# Altium integrated library Resistors$.IntLib: 1243 symbols (part 7 of 7)
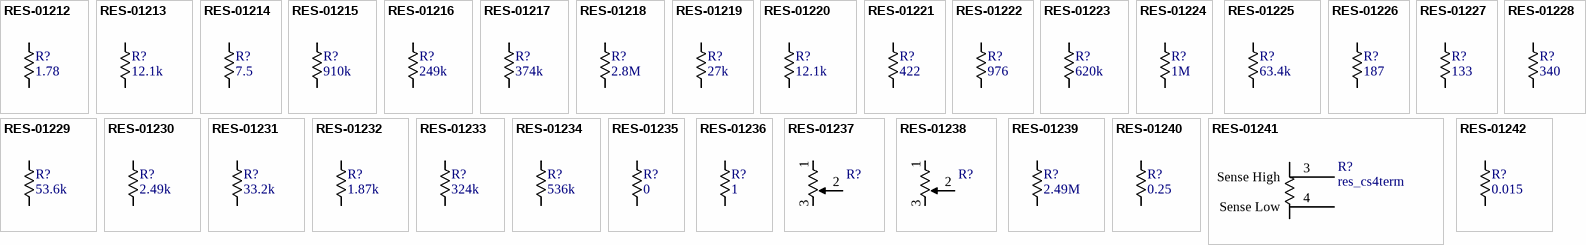
[diagram p38: symbols RES-01212 to RES-01242]

## RES-01212
designator R?, comment 1.78
RES SMD 1.78 OHM 1% 1/10W 0603; Part Number: RES-01212; Manufacturer: Vishay Dale; Manufacturer PN: CRCW06031R78FKEA; Resistance: 1.78; Tolerance: ±1%; Power Rating: 1/10W; Cost: 0.1
footprint chip_0603
pins: 1, 2

## RES-01213
designator R?, comment 12.1k
RES SMD 12.1K OHM 1% 1/10W 0603; Part Number: RES-01213; Manufacturer: Vishay Dale; Manufacturer PN: CRCW060312K1FKEA; Resistance: 12.1k; Tolerance: ±1%; Power Rating: 1/10W; Cost: 0.1
footprint chip_0603
pins: 1, 2

## RES-01214
designator R?, comment 7.5
RES SMD 7.5 OHM 1% 1/10W 0603; Part Number: RES-01214; Manufacturer: Vishay Dale; Manufacturer PN: CRCW06037R50FKEA; Resistance: 7.5; Tolerance: ±1%; Power Rating: 1/10W; Cost: 0.1
footprint chip_0603
pins: 1, 2

## RES-01215
designator R?, comment 910k
RES SMD 910K OHM 1% 1/10W 0603; Part Number: RES-01215; Manufacturer: Vishay Dale; Manufacturer PN: CRCW0603910KFKEA; Resistance: 910k; Tolerance: ±1%; Power Rating: 1/10W; Cost: 0.1
footprint chip_0603
pins: 1, 2

## RES-01216
designator R?, comment 249k
RES SMD 249K OHM 1% 1/10W 0603; Part Number: RES-01216; Manufacturer: Vishay Dale; Manufacturer PN: CRCW0603249KFKEA; Resistance: 249k; Tolerance: ±1%; Power Rating: 1/10W; Cost: 0.1
footprint chip_0603
pins: 1, 2

## RES-01217
designator R?, comment 374k
RES SMD 374K OHM 1% 1/10W 0603; Part Number: RES-01217; Manufacturer: Vishay Dale; Manufacturer PN: CRCW0603374KFKEA; Resistance: 374k; Tolerance: ±1%; Power Rating: 1/10W; Cost: 0.1
footprint chip_0603
pins: 1, 2

## RES-01218
designator R?, comment 2.8M
RES SMD 2.8M OHM 1% 1/10W 0603; Part Number: RES-01218; Manufacturer: Vishay Dale; Manufacturer PN: CRCW06032M80FKEA; Resistance: 2.8M; Tolerance: ±1%; Power Rating: 1/10W; Cost: 0.1
footprint chip_0603
pins: 1, 2

## RES-01219
designator R?, comment 27k
RES SMD 27K OHM 1% 1/10W 0603; Part Number: RES-01219; Manufacturer: Vishay Dale; Manufacturer PN: CRCW060327K0FKEA; Resistance: 27k; Tolerance: ±1%; Power Rating: 1/10W; Cost: 0.1
footprint chip_0603
pins: 1, 2

## RES-01220
designator R?, comment 12.1k
RES SMD 12.1K OHM 1% 1/10W 0603; Part Number: RES-01220; Manufacturer: Vishay Dale; Manufacturer PN: CRCW060312K1FKEB; Resistance: 12.1k; Tolerance: ±1%; Power Rating: 1/10W; Cost: 0.1
footprint chip_0603
pins: 1, 2

## RES-01221
designator R?, comment 422
RES SMD 422 OHM 1% 1/10W 0603; Part Number: RES-01221; Manufacturer: Vishay Dale; Manufacturer PN: CRCW0603422RFKEA; Resistance: 422; Tolerance: ±1%; Power Rating: 1/10W; Cost: 0.1
footprint chip_0603
pins: 1, 2

## RES-01222
designator R?, comment 976
RES SMD 976 OHM 1% 1/10W 0603; Part Number: RES-01222; Manufacturer: Vishay Dale; Manufacturer PN: CRCW0603976RFKEA; Resistance: 976; Tolerance: ±1%; Power Rating: 1/10W; Cost: 0.1
footprint chip_0603
pins: 1, 2

## RES-01223
designator R?, comment 620k
RES SMD 620K OHM 1% 1/10W 0603; Part Number: RES-01223; Manufacturer: Vishay Dale; Manufacturer PN: CRCW0603620KFKEA; Resistance: 620k; Tolerance: ±1%; Power Rating: 1/10W; Cost: 0.1
footprint chip_0603
pins: 1, 2

## RES-01224
designator R?, comment 1M
RES SMD 1M OHM 1% 1/10W 0603; Part Number: RES-01224; Manufacturer: Vishay Dale; Manufacturer PN: CRCW06031M00FKEC; Resistance: 1M; Tolerance: ±1%; Power Rating: 1/10W; Cost: 0.1
footprint chip_0603
pins: 1, 2

## RES-01225
designator R?, comment 63.4k
RES SMD 63.4K OHM 1% 1/10W 0603; Part Number: RES-01225; Manufacturer: Vishay Dale; Manufacturer PN: CRCW060363K4FKEB; Resistance: 63.4k; Tolerance: ±1%; Power Rating: 1/10W; Cost: 0.1
footprint chip_0603
pins: 1, 2

## RES-01226
designator R?, comment 187
RES SMD 187 OHM 1% 1/10W 0603; Part Number: RES-01226; Manufacturer: Vishay Dale; Manufacturer PN: CRCW0603187RFKEA; Resistance: 187; Tolerance: ±1%; Power Rating: 1/10W; Cost: 0.1
footprint chip_0603
pins: 1, 2

## RES-01227
designator R?, comment 133
RES SMD 133 OHM 1% 1/10W 0603; Part Number: RES-01227; Manufacturer: Vishay Dale; Manufacturer PN: CRCW0603133RFKEA; Resistance: 133; Tolerance: ±1%; Power Rating: 1/10W; Cost: 0.1
footprint chip_0603
pins: 1, 2

## RES-01228
designator R?, comment 340
RES SMD 340 OHM 1% 1/10W 0603; Part Number: RES-01228; Manufacturer: Vishay Dale; Manufacturer PN: CRCW0603340RFKEA; Resistance: 340; Tolerance: ±1%; Power Rating: 1/10W; Cost: 0.1
footprint chip_0603
pins: 1, 2

## RES-01229
designator R?, comment 53.6k
RES SMD 53.6K OHM 1% 1/10W 0603; Part Number: RES-01229; Manufacturer: Vishay Dale; Manufacturer PN: CRCW060353K6FKEA; Resistance: 53.6k; Tolerance: ±1%; Power Rating: 1/10W; Cost: 0.1
footprint chip_0603
pins: 1, 2

## RES-01230
designator R?, comment 2.49k
RES SMD 2.49K OHM 1% 1/10W 0603; Part Number: RES-01230; Manufacturer: Vishay Dale; Manufacturer PN: CRCW06032K49FKEB; Resistance: 2.49k; Tolerance: ±1%; Power Rating: 1/10W; Cost: 0.1
footprint chip_0603
pins: 1, 2

## RES-01231
designator R?, comment 33.2k
RES SMD 33.2K OHM 1% 1/10W 0603; Part Number: RES-01231; Manufacturer: Vishay Dale; Manufacturer PN: CRCW060333K2FKEA; Resistance: 33.2k; Tolerance: ±1%; Power Rating: 1/10W; Cost: 0.1; Distributor Link: https://www.digikey.com/en/products/detail/vishay-dale/CRCW060333K2FKEA/1174840
footprint chip_0603
pins: 1, 2

## RES-01232
designator R?, comment 1.87k
RES SMD 1.87K OHM 1% 1/10W 0603; Part Number: RES-01232; Manufacturer: Yageo; Manufacturer PN: RC0603FR-071K87L; Resistance: 1.87k; Tolerance: ±1%; Power Rating: 1/10W; Cost: 0.1; Distributor Link: https://www.digikey.com/en/products/detail/yageo/RC0603FR-071K87L/726876
footprint chip_0603
pins: 1, 2

## RES-01233
designator R?, comment 324k
RES SMD 324K OHM 1% 1/10W 0603 VISHAY DALE CRCW; Part Number: RES-01233; Manufacturer PN: CRCW0603324KFKEA; Resistance: 324k; Tolerance: ±1%; Power Rating: 1/10W; Manufacturer: Vishay Dale; Cost: 0.1; Distributor Link: https://www.digikey.com/en/products/detail/vishay-dale/CRCW0603324KFKEA/1174952
footprint chip_0603
pins: 1, 2

## RES-01234
designator R?, comment 536k
RES SMD 536K OHM 1% 1/10W 0603 VISHAY DALE CRCW; Part Number: RES-01234; Manufacturer PN: CRCW0603536KFKEA; Resistance: 536k; Tolerance: ±1%; Power Rating: 1/10W; Manufacturer: Vishay Dale; Cost: 0.1; Distributor Link: https://www.digikey.com/en/products/detail/vishay-dale/CRCW0603536KFKEA/1174979
footprint chip_0603
pins: 1, 2

## RES-01235
designator R?, comment 0
RES SMD 0 OHM 1/10W 0603 VISHAY DALE CRCW; Part Number: RES-01235; Manufacturer PN: CRCW06030000Z0EA; Tolerance: Jumper; Resistance: 0; Power Rating: 1/10W; Manufacturer: Vishay Dale; Cost: 0.1; Distributor Link: https://www.digikey.com/en/products/detail/vishay-dale/CRCW06030000Z0EA/1174156
footprint chip_0603
pins: 1, 2

## RES-01236
designator R?, comment 1
RES SMD 1 OHM 1% 2W 100ppm/°C 2512 BOURNS CRM2512; Part Number: RES-01236; Manufacturer PN: CRM2512-FX-1R00ELF; Resistance: 1; Tolerance: ±1%; Power Rating: 2W; Manufacturer: Bourns; Cost: 0.7; Distributor Link: https://www.digikey.com/en/products/detail/bourns-inc/CRM2512-FX-1R00ELF/2563906
footprint chip_2512_cs
pins: 1, 2

## RES-01237
designator R?, comment res_single_pot  (value not drawn)
RES POT 100K OHM 10% 1/2W THT PANEL MOUNT; Part Number: RES-01237; Manufacturer: TT Electronics; Manufacturer PN: P260T-D1BS3CB100K; Resistance: 100k; Tolerance: ±10%; Power Rating: 1/2W; Cost: 5.01; Distributor Link: https://www.digikey.com/en/products/detail/tt-electronics-bi/P260T-D1BS3CB100K/2408912
footprint TT_P260T
pins: 1, 2, 3

## RES-01238
designator R?, comment res_single_pot  (value not drawn)
RES POT 100K OHM 1% 1/20W THT VERTICAL; Part Number: RES-01238; Manufacturer: Bourns; Manufacturer PN: PTV09A-4020U-B104; Resistance: 100k; Tolerance: ±1%; Power Rating: 1/20W; Cost: 0.83; Distributor Link: https://www.digikey.com/en/products/detail/bourns-inc/PTV09A-4020U-B104/3781131
footprint BOURNS_PTV09A-4
pins: 1, 2, 3

## RES-01239
designator R?, comment 2.49M
RES SMD 2.49M OHM 1% 1/8W 0805 VISHAY DALE CRCW; Part Number: RES-01239; Manufacturer PN: CRCW08052M49FKEA; Resistance: 2.49M; Tolerance: ±1%; Power Rating: 1/8W; Manufacturer: Vishay Dale; Cost: 0.1; Distributor Link: https://www.digikey.com/en/products/detail/vishay-dale/CRCW08052M49FKEA/1176059
footprint chip_0805
pins: 1, 2

## RES-01240
designator R?, comment 0.25
RES SMD 0.25 OHM 1% 2W 2010 VISHAY DALE WFM; Part Number: RES-01240; Manufacturer PN: WFMB2010R2500FEA; Resistance: 0.25; Tolerance: ±1%; Power Rating: 2W; Manufacturer: Vishay Dale; Cost: 1.31; Distributor Link: https://www.digikey.com/en/products/detail/vishay-dale/WFMB2010R2500FEA/9972272
footprint chip_2010_cs
pins: 1, 2

## RES-01241
designator R?, comment res_cs4term
RES SMD 0.5mOHM 1% 5W; Part Number: RES-01241; Manufacturer: Bourns; Manufacturer PN: CSS4J-4026R-L500F; Resistance: 0.0005; Tolerance: 1%; Power Rating: 5W; Cost: 1.78; Distributor Link: https://www.digikey.com/en/products/detail/bourns-inc/CSS4J-4026R-L500F/6023762
footprint chip_4026_CS_BOURNS
pins: 1, 2, 3 Sense High, 4 Sense Low

## RES-01242
designator R?, comment 0.015
RES SMD 15mOhm 5% 2W 2512 TE CONN; Part Number: RES-01242; Manufacturer: TE Connectivity; Manufacturer PN: RLP73V3AR015JTE; Resistance: 0.015; Tolerance: 5%; Power Rating: 2W; Cost: 0.55; Distributor Link: https://www.digikey.com/en/products/detail/te-connectivity-passive-product/RLP73V3AR015JTE/4032246
footprint chip_2512_cs
pins: 1, 2